# Altium integrated library SignalCommunications.IntLib: 804 symbols (part 7 of 10)
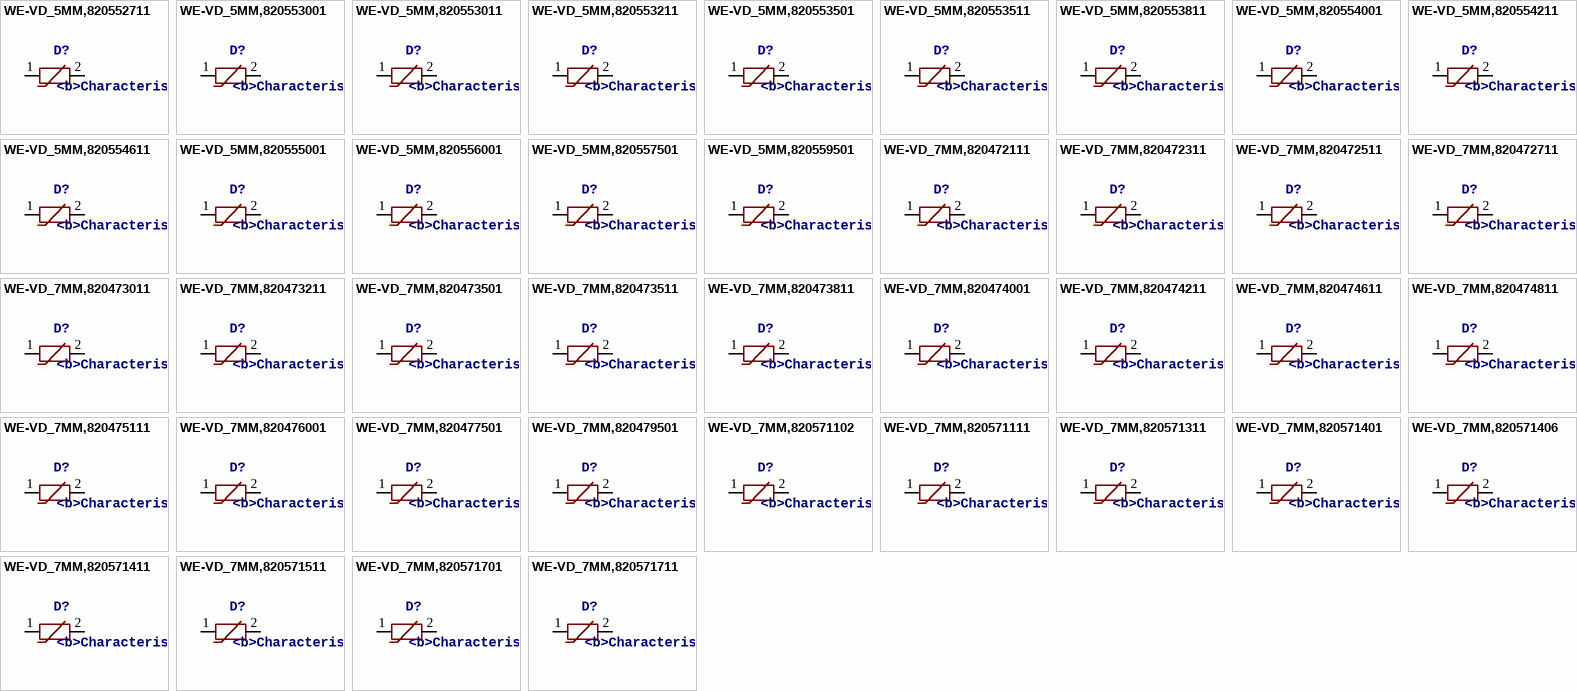
[diagram p48: symbols WE-VD_5MM,820552711 to WE-VD_7MM,820571711]

## WE-VD_7MM,820479501
designator D?, comment <b>Characteristics:</b> / <pre>•Low clamping voltage / •After a surge impulse the varistor works immediately / in normal mode so there is no slip current / •Excellent absorption at surge impulses</pre><br> / <b>Applications:</b> / <pre> / •12–48 VDC distribution / •110–400 V power supply / •Leakage of voltage peaks / •Surge protection in accordance with EN 61000-4-5 / </pre>
MANUFACTURER: Würth Elektronik eiSos GmbH; CREATED-BY: Christin Zierenner; COMPANY-URL: http://www.we-online.de; CREATED-DATE: May 2012; DATASHEET-URL: http://katalog.we-online.de/kataloge/eisos/index.php?language=en&pf=WE-VD
footprint WE-VD_7MM-DIA
pins: 1, 2

## WE-VD_7MM,820571102
designator D?, comment <b>Characteristics:</b> / <pre>•Low clamping voltage / •After a surge impulse the varistor works immediately / in normal mode so there is no slip current / •Excellent absorption at surge impulses</pre><br> / <b>Applications:</b> / <pre> / •12–48 VDC distribution / •110–400 V power supply / •Leakage of voltage peaks / •Surge protection in accordance with EN 61000-4-5 / </pre>
MANUFACTURER: Würth Elektronik eiSos GmbH; CREATED-BY: Christin Zierenner; COMPANY-URL: http://www.we-online.de; CREATED-DATE: May 2012; DATASHEET-URL: http://katalog.we-online.de/kataloge/eisos/index.php?language=en&pf=WE-VD
footprint WE-VD_7MM-DIA
pins: 1, 2

## WE-VD_7MM,820571111
designator D?, comment <b>Characteristics:</b> / <pre>•Low clamping voltage / •After a surge impulse the varistor works immediately / in normal mode so there is no slip current / •Excellent absorption at surge impulses</pre><br> / <b>Applications:</b> / <pre> / •12–48 VDC distribution / •110–400 V power supply / •Leakage of voltage peaks / •Surge protection in accordance with EN 61000-4-5 / </pre>
MANUFACTURER: Würth Elektronik eiSos GmbH; CREATED-BY: Christin Zierenner; COMPANY-URL: http://www.we-online.de; CREATED-DATE: May 2012; DATASHEET-URL: http://katalog.we-online.de/kataloge/eisos/media/pdf/820571111.pdf
footprint WE-VD_7MM-DIA
pins: 1, 2

## WE-VD_7MM,820571311
designator D?, comment <b>Characteristics:</b> / <pre>•Low clamping voltage / •After a surge impulse the varistor works immediately / in normal mode so there is no slip current / •Excellent absorption at surge impulses</pre><br> / <b>Applications:</b> / <pre> / •12–48 VDC distribution / •110–400 V power supply / •Leakage of voltage peaks / •Surge protection in accordance with EN 61000-4-5 / </pre>
MANUFACTURER: Würth Elektronik eiSos GmbH; CREATED-BY: Christin Zierenner; COMPANY-URL: http://www.we-online.de; CREATED-DATE: May 2012; DATASHEET-URL: http://katalog.we-online.de/kataloge/eisos/media/pdf/820571311.pdf
footprint WE-VD_7MM-DIA
pins: 1, 2

## WE-VD_7MM,820571401
designator D?, comment <b>Characteristics:</b> / <pre>•Low clamping voltage / •After a surge impulse the varistor works immediately / in normal mode so there is no slip current / •Excellent absorption at surge impulses</pre><br> / <b>Applications:</b> / <pre> / •12–48 VDC distribution / •110–400 V power supply / •Leakage of voltage peaks / •Surge protection in accordance with EN 61000-4-5 / </pre>
MANUFACTURER: Würth Elektronik eiSos GmbH; CREATED-BY: Christin Zierenner; COMPANY-URL: http://www.we-online.de; CREATED-DATE: May 2012; DATASHEET-URL: http://katalog.we-online.de/kataloge/eisos/index.php?language=en&pf=WE-VD
footprint WE-VD_7MM-DIA
pins: 1, 2

## WE-VD_7MM,820571406
designator D?, comment <b>Characteristics:</b> / <pre>•Low clamping voltage / •After a surge impulse the varistor works immediately / in normal mode so there is no slip current / •Excellent absorption at surge impulses</pre><br> / <b>Applications:</b> / <pre> / •12–48 VDC distribution / •110–400 V power supply / •Leakage of voltage peaks / •Surge protection in accordance with EN 61000-4-5 / </pre>
MANUFACTURER: Würth Elektronik eiSos GmbH; CREATED-BY: Christin Zierenner; COMPANY-URL: http://www.we-online.de; CREATED-DATE: May 2012; DATASHEET-URL: http://katalog.we-online.de/kataloge/eisos/media/pdf/820571406.pdf
footprint WE-VD_7MM-DIA
pins: 1, 2

## WE-VD_7MM,820571411
designator D?, comment <b>Characteristics:</b> / <pre>•Low clamping voltage / •After a surge impulse the varistor works immediately / in normal mode so there is no slip current / •Excellent absorption at surge impulses</pre><br> / <b>Applications:</b> / <pre> / •12–48 VDC distribution / •110–400 V power supply / •Leakage of voltage peaks / •Surge protection in accordance with EN 61000-4-5 / </pre>
MANUFACTURER: Würth Elektronik eiSos GmbH; CREATED-BY: Christin Zierenner; COMPANY-URL: http://www.we-online.de; CREATED-DATE: May 2012; DATASHEET-URL: http://katalog.we-online.de/kataloge/eisos/index.php?language=en&pf=WE-VD
footprint WE-VD_7MM-DIA
pins: 1, 2

## WE-VD_7MM,820571511
designator D?, comment <b>Characteristics:</b> / <pre>•Low clamping voltage / •After a surge impulse the varistor works immediately / in normal mode so there is no slip current / •Excellent absorption at surge impulses</pre><br> / <b>Applications:</b> / <pre> / •12–48 VDC distribution / •110–400 V power supply / •Leakage of voltage peaks / •Surge protection in accordance with EN 61000-4-5 / </pre>
MANUFACTURER: Würth Elektronik eiSos GmbH; CREATED-BY: Christin Zierenner; COMPANY-URL: http://www.we-online.de; CREATED-DATE: May 2012; DATASHEET-URL: http://katalog.we-online.de/kataloge/eisos/media/pdf/820471511.pdf
footprint WE-VD_7MM-DIA
pins: 1, 2

## WE-VD_7MM,820571701
designator D?, comment <b>Characteristics:</b> / <pre>•Low clamping voltage / •After a surge impulse the varistor works immediately / in normal mode so there is no slip current / •Excellent absorption at surge impulses</pre><br> / <b>Applications:</b> / <pre> / •12–48 VDC distribution / •110–400 V power supply / •Leakage of voltage peaks / •Surge protection in accordance with EN 61000-4-5 / </pre>
MANUFACTURER: Würth Elektronik eiSos GmbH; CREATED-BY: Christin Zierenner; COMPANY-URL: http://www.we-online.de; CREATED-DATE: May 2012; DATASHEET-URL: http://katalog.we-online.de/kataloge/eisos/index.php?language=en&pf=WE-VD
footprint WE-VD_7MM-DIA
pins: 1, 2

## WE-VD_7MM,820571711
designator D?, comment <b>Characteristics:</b> / <pre>•Low clamping voltage / •After a surge impulse the varistor works immediately / in normal mode so there is no slip current / •Excellent absorption at surge impulses</pre><br> / <b>Applications:</b> / <pre> / •12–48 VDC distribution / •110–400 V power supply / •Leakage of voltage peaks / •Surge protection in accordance with EN 61000-4-5 / </pre>
MANUFACTURER: Würth Elektronik eiSos GmbH; CREATED-BY: Christin Zierenner; COMPANY-URL: http://www.we-online.de; CREATED-DATE: May 2012; DATASHEET-URL: http://katalog.we-online.de/kataloge/eisos/index.php?language=en&pf=WE-VD
footprint WE-VD_7MM-DIA
pins: 1, 2

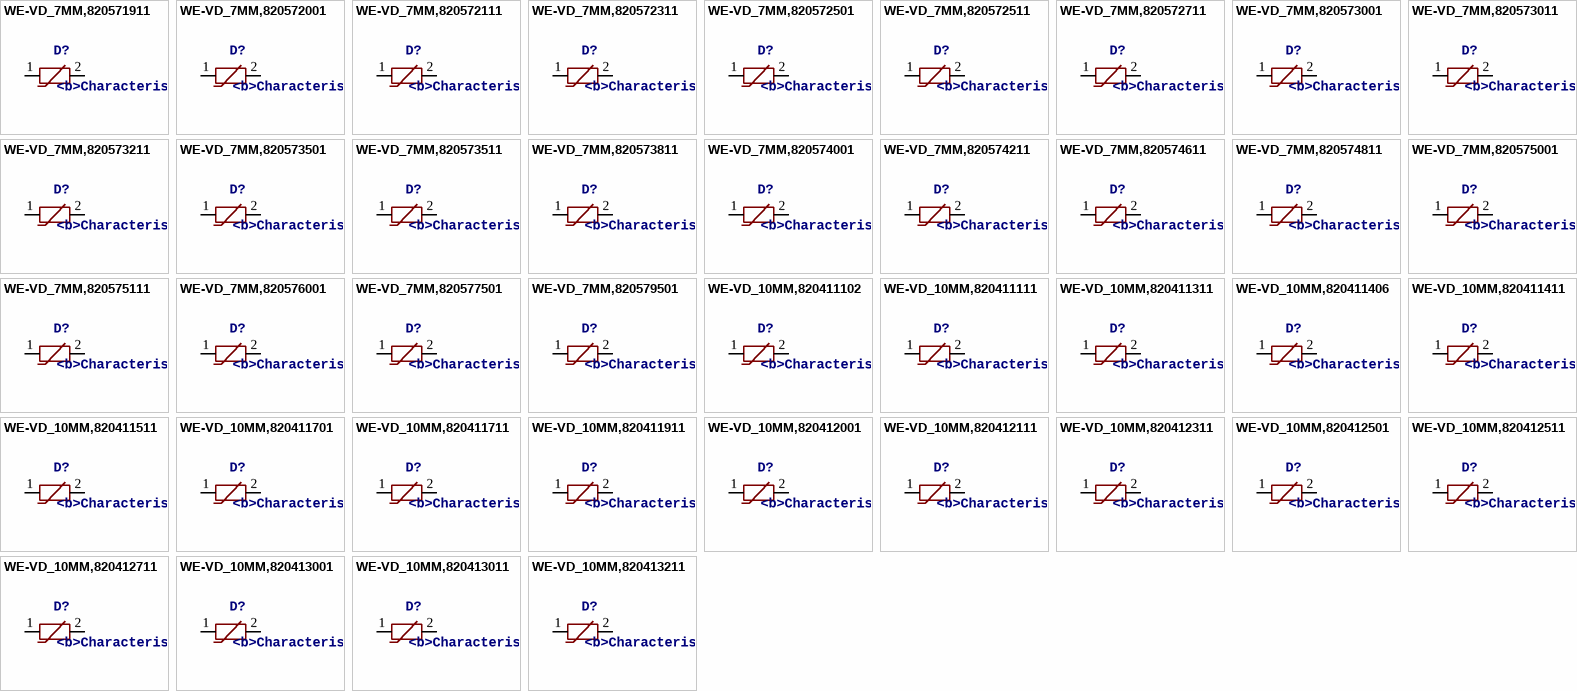
[diagram p36: symbols WE-VD_7MM,820571911 to WE-VD_10MM,820413211]

## WE-VD_7MM,820571911
designator D?, comment <b>Characteristics:</b> / <pre>•Low clamping voltage / •After a surge impulse the varistor works immediately / in normal mode so there is no slip current / •Excellent absorption at surge impulses</pre><br> / <b>Applications:</b> / <pre> / •12–48 VDC distribution / •110–400 V power supply / •Leakage of voltage peaks / •Surge protection in accordance with EN 61000-4-5 / </pre>
MANUFACTURER: Würth Elektronik eiSos GmbH; CREATED-BY: Christin Zierenner; COMPANY-URL: http://www.we-online.de; CREATED-DATE: May 2012; DATASHEET-URL: http://katalog.we-online.de/kataloge/eisos/index.php?language=en&pf=WE-VD
footprint WE-VD_7MM-DIA
pins: 1, 2

## WE-VD_7MM,820572001
designator D?, comment <b>Characteristics:</b> / <pre>•Low clamping voltage / •After a surge impulse the varistor works immediately / in normal mode so there is no slip current / •Excellent absorption at surge impulses</pre><br> / <b>Applications:</b> / <pre> / •12–48 VDC distribution / •110–400 V power supply / •Leakage of voltage peaks / •Surge protection in accordance with EN 61000-4-5 / </pre>
MANUFACTURER: Würth Elektronik eiSos GmbH; CREATED-BY: Christin Zierenner; COMPANY-URL: http://www.we-online.de; CREATED-DATE: May 2012; DATASHEET-URL: http://katalog.we-online.de/kataloge/eisos/index.php?language=en&pf=WE-VD
footprint WE-VD_7MM-DIA
pins: 1, 2

## WE-VD_7MM,820572111
designator D?, comment <b>Characteristics:</b> / <pre>•Low clamping voltage / •After a surge impulse the varistor works immediately / in normal mode so there is no slip current / •Excellent absorption at surge impulses</pre><br> / <b>Applications:</b> / <pre> / •12–48 VDC distribution / •110–400 V power supply / •Leakage of voltage peaks / •Surge protection in accordance with EN 61000-4-5 / </pre>
MANUFACTURER: Würth Elektronik eiSos GmbH; CREATED-BY: Christin Zierenner; COMPANY-URL: http://www.we-online.de; CREATED-DATE: May 2012; DATASHEET-URL: http://katalog.we-online.de/kataloge/eisos/index.php?language=en&pf=WE-VD
footprint WE-VD_7MM-1.0
pins: 1, 2

## WE-VD_7MM,820572311
designator D?, comment <b>Characteristics:</b> / <pre>•Low clamping voltage / •After a surge impulse the varistor works immediately / in normal mode so there is no slip current / •Excellent absorption at surge impulses</pre><br> / <b>Applications:</b> / <pre> / •12–48 VDC distribution / •110–400 V power supply / •Leakage of voltage peaks / •Surge protection in accordance with EN 61000-4-5 / </pre>
MANUFACTURER: Würth Elektronik eiSos GmbH; CREATED-BY: Christin Zierenner; COMPANY-URL: http://www.we-online.de; CREATED-DATE: May 2012; DATASHEET-URL: http://katalog.we-online.de/kataloge/eisos/index.php?language=en&pf=WE-VD
footprint WE-VD_7MM-1.1
pins: 1, 2

## WE-VD_7MM,820572501
designator D?, comment <b>Characteristics:</b> / <pre>•Low clamping voltage / •After a surge impulse the varistor works immediately / in normal mode so there is no slip current / •Excellent absorption at surge impulses</pre><br> / <b>Applications:</b> / <pre> / •12–48 VDC distribution / •110–400 V power supply / •Leakage of voltage peaks / •Surge protection in accordance with EN 61000-4-5 / </pre>
MANUFACTURER: Würth Elektronik eiSos GmbH; CREATED-BY: Christin Zierenner; COMPANY-URL: http://www.we-online.de; CREATED-DATE: May 2012; DATASHEET-URL: http://katalog.we-online.de/kataloge/eisos/media/pdf/820572501.pdf
footprint WE-VD_7MM-DIA
pins: 1, 2

## WE-VD_7MM,820572511
designator D?, comment <b>Characteristics:</b> / <pre>•Low clamping voltage / •After a surge impulse the varistor works immediately / in normal mode so there is no slip current / •Excellent absorption at surge impulses</pre><br> / <b>Applications:</b> / <pre> / •12–48 VDC distribution / •110–400 V power supply / •Leakage of voltage peaks / •Surge protection in accordance with EN 61000-4-5 / </pre>
MANUFACTURER: Würth Elektronik eiSos GmbH; CREATED-BY: Christin Zierenner; COMPANY-URL: http://www.we-online.de; CREATED-DATE: May 2012; DATASHEET-URL: http://katalog.we-online.de/kataloge/eisos/media/pdf/820572511.pdf
footprint WE-VD_7MM-1.3
pins: 1, 2

## WE-VD_7MM,820572711
designator D?, comment <b>Characteristics:</b> / <pre>•Low clamping voltage / •After a surge impulse the varistor works immediately / in normal mode so there is no slip current / •Excellent absorption at surge impulses</pre><br> / <b>Applications:</b> / <pre> / •12–48 VDC distribution / •110–400 V power supply / •Leakage of voltage peaks / •Surge protection in accordance with EN 61000-4-5 / </pre>
MANUFACTURER: Würth Elektronik eiSos GmbH; CREATED-BY: Christin Zierenner; COMPANY-URL: http://www.we-online.de; CREATED-DATE: May 2012; DATASHEET-URL: http://katalog.we-online.de/kataloge/eisos/media/pdf/820572711.pdf
footprint WE-VD_7MM-1.5
pins: 1, 2

## WE-VD_7MM,820573001
designator D?, comment <b>Characteristics:</b> / <pre>•Low clamping voltage / •After a surge impulse the varistor works immediately / in normal mode so there is no slip current / •Excellent absorption at surge impulses</pre><br> / <b>Applications:</b> / <pre> / •12–48 VDC distribution / •110–400 V power supply / •Leakage of voltage peaks / •Surge protection in accordance with EN 61000-4-5 / </pre>
MANUFACTURER: Würth Elektronik eiSos GmbH; CREATED-BY: Christin Zierenner; COMPANY-URL: http://www.we-online.de; CREATED-DATE: May 2012; DATASHEET-URL: http://katalog.we-online.de/kataloge/eisos/media/pdf/820573001.pdf
footprint WE-VD_7MM-DIA
pins: 1, 2

## WE-VD_7MM,820573011
designator D?, comment <b>Characteristics:</b> / <pre>•Low clamping voltage / •After a surge impulse the varistor works immediately / in normal mode so there is no slip current / •Excellent absorption at surge impulses</pre><br> / <b>Applications:</b> / <pre> / •12–48 VDC distribution / •110–400 V power supply / •Leakage of voltage peaks / •Surge protection in accordance with EN 61000-4-5 / </pre>
MANUFACTURER: Würth Elektronik eiSos GmbH; CREATED-BY: Christin Zierenner; COMPANY-URL: http://www.we-online.de; CREATED-DATE: May 2012; DATASHEET-URL: http://katalog.we-online.de/kataloge/eisos/media/pdf/820573011.pdf
footprint WE-VD_7MM-1.7
pins: 1, 2

## WE-VD_7MM,820573211
designator D?, comment <b>Characteristics:</b> / <pre>•Low clamping voltage / •After a surge impulse the varistor works immediately / in normal mode so there is no slip current / •Excellent absorption at surge impulses</pre><br> / <b>Applications:</b> / <pre> / •12–48 VDC distribution / •110–400 V power supply / •Leakage of voltage peaks / •Surge protection in accordance with EN 61000-4-5 / </pre>
MANUFACTURER: Würth Elektronik eiSos GmbH; CREATED-BY: Christin Zierenner; COMPANY-URL: http://www.we-online.de; CREATED-DATE: May 2012; DATASHEET-URL: http://katalog.we-online.de/kataloge/eisos/index.php?language=en&pf=WE-VD
footprint WE-VD_7MM-1.8
pins: 1, 2

## WE-VD_7MM,820573501
designator D?, comment <b>Characteristics:</b> / <pre>•Low clamping voltage / •After a surge impulse the varistor works immediately / in normal mode so there is no slip current / •Excellent absorption at surge impulses</pre><br> / <b>Applications:</b> / <pre> / •12–48 VDC distribution / •110–400 V power supply / •Leakage of voltage peaks / •Surge protection in accordance with EN 61000-4-5 / </pre>
MANUFACTURER: Würth Elektronik eiSos GmbH; CREATED-BY: Christin Zierenner; COMPANY-URL: http://www.we-online.de; CREATED-DATE: May 2012; DATASHEET-URL: http://katalog.we-online.de/kataloge/eisos/index.php?language=en&pf=WE-VD
footprint WE-VD_7MM-1.1
pins: 1, 2

## WE-VD_7MM,820573511
designator D?, comment <b>Characteristics:</b> / <pre>•Low clamping voltage / •After a surge impulse the varistor works immediately / in normal mode so there is no slip current / •Excellent absorption at surge impulses</pre><br> / <b>Applications:</b> / <pre> / •12–48 VDC distribution / •110–400 V power supply / •Leakage of voltage peaks / •Surge protection in accordance with EN 61000-4-5 / </pre>
MANUFACTURER: Würth Elektronik eiSos GmbH; CREATED-BY: Christin Zierenner; COMPANY-URL: http://www.we-online.de; CREATED-DATE: May 2012; DATASHEET-URL: http://katalog.we-online.de/kataloge/eisos/index.php?language=en&pf=WE-VD
footprint WE-VD_7MM-2.1
pins: 1, 2

## WE-VD_7MM,820573811
designator D?, comment <b>Characteristics:</b> / <pre>•Low clamping voltage / •After a surge impulse the varistor works immediately / in normal mode so there is no slip current / •Excellent absorption at surge impulses</pre><br> / <b>Applications:</b> / <pre> / •12–48 VDC distribution / •110–400 V power supply / •Leakage of voltage peaks / •Surge protection in accordance with EN 61000-4-5 / </pre>
MANUFACTURER: Würth Elektronik eiSos GmbH; CREATED-BY: Christin Zierenner; COMPANY-URL: http://www.we-online.de; CREATED-DATE: May 2012; DATASHEET-URL: http://katalog.we-online.de/kataloge/eisos/index.php?language=en&pf=WE-VD
footprint WE-VD_7MM-2.4
pins: 1, 2

## WE-VD_7MM,820574001
designator D?, comment <b>Characteristics:</b> / <pre>•Low clamping voltage / •After a surge impulse the varistor works immediately / in normal mode so there is no slip current / •Excellent absorption at surge impulses</pre><br> / <b>Applications:</b> / <pre> / •12–48 VDC distribution / •110–400 V power supply / •Leakage of voltage peaks / •Surge protection in accordance with EN 61000-4-5 / </pre>
MANUFACTURER: Würth Elektronik eiSos GmbH; CREATED-BY: Christin Zierenner; COMPANY-URL: http://www.we-online.de; CREATED-DATE: May 2012; DATASHEET-URL: http://katalog.we-online.de/kataloge/eisos/media/pdf/820574001.pdf
footprint WE-VD_7MM-1.5
pins: 1, 2

## WE-VD_7MM,820574211
designator D?, comment <b>Characteristics:</b> / <pre>•Low clamping voltage / •After a surge impulse the varistor works immediately / in normal mode so there is no slip current / •Excellent absorption at surge impulses</pre><br> / <b>Applications:</b> / <pre> / •12–48 VDC distribution / •110–400 V power supply / •Leakage of voltage peaks / •Surge protection in accordance with EN 61000-4-5 / </pre>
MANUFACTURER: Würth Elektronik eiSos GmbH; CREATED-BY: Christin Zierenner; COMPANY-URL: http://www.we-online.de; CREATED-DATE: May 2012; DATASHEET-URL: http://katalog.we-online.de/kataloge/eisos/media/pdf/820574211.pdf
footprint WE-VD_7MM-2.7
pins: 1, 2

## WE-VD_7MM,820574611
designator D?, comment <b>Characteristics:</b> / <pre>•Low clamping voltage / •After a surge impulse the varistor works immediately / in normal mode so there is no slip current / •Excellent absorption at surge impulses</pre><br> / <b>Applications:</b> / <pre> / •12–48 VDC distribution / •110–400 V power supply / •Leakage of voltage peaks / •Surge protection in accordance with EN 61000-4-5 / </pre>
MANUFACTURER: Würth Elektronik eiSos GmbH; CREATED-BY: Christin Zierenner; COMPANY-URL: http://www.we-online.de; CREATED-DATE: May 2012; DATASHEET-URL: http://katalog.we-online.de/kataloge/eisos/media/pdf/820574611.pdf
footprint WE-VD_7MM-3.0
pins: 1, 2

## WE-VD_7MM,820574811
designator D?, comment <b>Characteristics:</b> / <pre>•Low clamping voltage / •After a surge impulse the varistor works immediately / in normal mode so there is no slip current / •Excellent absorption at surge impulses</pre><br> / <b>Applications:</b> / <pre> / •12–48 VDC distribution / •110–400 V power supply / •Leakage of voltage peaks / •Surge protection in accordance with EN 61000-4-5 / </pre>
MANUFACTURER: Würth Elektronik eiSos GmbH; CREATED-BY: Christin Zierenner; COMPANY-URL: http://www.we-online.de; CREATED-DATE: May 2012; DATASHEET-URL: http://katalog.we-online.de/kataloge/eisos/index.php?language=en&pf=WE-VD
footprint WE-VD_7MM-3.1
pins: 1, 2

## WE-VD_7MM,820575001
designator D?, comment <b>Characteristics:</b> / <pre>•Low clamping voltage / •After a surge impulse the varistor works immediately / in normal mode so there is no slip current / •Excellent absorption at surge impulses</pre><br> / <b>Applications:</b> / <pre> / •12–48 VDC distribution / •110–400 V power supply / •Leakage of voltage peaks / •Surge protection in accordance with EN 61000-4-5 / </pre>
MANUFACTURER: Würth Elektronik eiSos GmbH; CREATED-BY: Christin Zierenner; COMPANY-URL: http://www.we-online.de; CREATED-DATE: May 2012; DATASHEET-URL: http://katalog.we-online.de/kataloge/eisos/media/pdf/820475001.pdf
footprint WE-VD_7MM-DIA
pins: 1, 2

## WE-VD_7MM,820575111
designator D?, comment <b>Characteristics:</b> / <pre>•Low clamping voltage / •After a surge impulse the varistor works immediately / in normal mode so there is no slip current / •Excellent absorption at surge impulses</pre><br> / <b>Applications:</b> / <pre> / •12–48 VDC distribution / •110–400 V power supply / •Leakage of voltage peaks / •Surge protection in accordance with EN 61000-4-5 / </pre>
MANUFACTURER: Würth Elektronik eiSos GmbH; CREATED-BY: Christin Zierenner; COMPANY-URL: http://www.we-online.de; CREATED-DATE: May 2012; DATASHEET-URL: http://katalog.we-online.de/kataloge/eisos/index.php?language=en&pf=WE-VD
footprint WE-VD_7MM-3.3
pins: 1, 2

## WE-VD_7MM,820576001
designator D?, comment <b>Characteristics:</b> / <pre>•Low clamping voltage / •After a surge impulse the varistor works immediately / in normal mode so there is no slip current / •Excellent absorption at surge impulses</pre><br> / <b>Applications:</b> / <pre> / •12–48 VDC distribution / •110–400 V power supply / •Leakage of voltage peaks / •Surge protection in accordance with EN 61000-4-5 / </pre>
MANUFACTURER: Würth Elektronik eiSos GmbH; CREATED-BY: Christin Zierenner; COMPANY-URL: http://www.we-online.de; CREATED-DATE: May 2012; DATASHEET-URL: http://katalog.we-online.de/kataloge/eisos/media/pdf/820576001.pdf
footprint WE-VD_7MM-DIA
pins: 1, 2

## WE-VD_7MM,820577501
designator D?, comment <b>Characteristics:</b> / <pre>•Low clamping voltage / •After a surge impulse the varistor works immediately / in normal mode so there is no slip current / •Excellent absorption at surge impulses</pre><br> / <b>Applications:</b> / <pre> / •12–48 VDC distribution / •110–400 V power supply / •Leakage of voltage peaks / •Surge protection in accordance with EN 61000-4-5 / </pre>
MANUFACTURER: Würth Elektronik eiSos GmbH; CREATED-BY: Christin Zierenner; COMPANY-URL: http://www.we-online.de; CREATED-DATE: May 2012; DATASHEET-URL: http://katalog.we-online.de/kataloge/eisos/index.php?language=en&pf=WE-VD
footprint WE-VD_7MM-DIA
pins: 1, 2

## WE-VD_7MM,820579501
designator D?, comment <b>Characteristics:</b> / <pre>•Low clamping voltage / •After a surge impulse the varistor works immediately / in normal mode so there is no slip current / •Excellent absorption at surge impulses</pre><br> / <b>Applications:</b> / <pre> / •12–48 VDC distribution / •110–400 V power supply / •Leakage of voltage peaks / •Surge protection in accordance with EN 61000-4-5 / </pre>
MANUFACTURER: Würth Elektronik eiSos GmbH; CREATED-BY: Christin Zierenner; COMPANY-URL: http://www.we-online.de; CREATED-DATE: May 2012; DATASHEET-URL: http://katalog.we-online.de/kataloge/eisos/index.php?language=en&pf=WE-VD
footprint WE-VD_7MM-DIA
pins: 1, 2

## WE-VD_10MM,820411102
designator D?, comment <b>Characteristics:</b> / <pre>•Low clamping voltage / •After a surge impulse the varistor works immediately / in normal mode so there is no slip current / •Excellent absorption at surge impulses</pre><br> / <b>Applications:</b> / <pre> / •12–48 VDC distribution / •110–400 V power supply / •Leakage of voltage peaks / •Surge protection in accordance with EN 61000-4-5 / </pre>
MANUFACTURER: Würth Elektronik eiSos GmbH; CREATED-BY: Christin Zierenner; COMPANY-URL: http://www.we-online.de; CREATED-DATE: May 2012; DATASHEET-URL: http://katalog.we-online.de/kataloge/eisos/index.php?language=en&pf=WE-VD
footprint WE-VD_10MM-DIA
pins: 1, 2

## WE-VD_10MM,820411111
designator D?, comment <b>Characteristics:</b> / <pre>•Low clamping voltage / •After a surge impulse the varistor works immediately / in normal mode so there is no slip current / •Excellent absorption at surge impulses</pre><br> / <b>Applications:</b> / <pre> / •12–48 VDC distribution / •110–400 V power supply / •Leakage of voltage peaks / •Surge protection in accordance with EN 61000-4-5 / </pre>
MANUFACTURER: Würth Elektronik eiSos GmbH; CREATED-BY: Christin Zierenner; COMPANY-URL: http://www.we-online.de; CREATED-DATE: May 2012; DATASHEET-URL: http://katalog.we-online.de/kataloge/eisos/index.php?language=en&pf=WE-VD
footprint WE-VD_10MM-DIA
pins: 1, 2

## WE-VD_10MM,820411311
designator D?, comment <b>Characteristics:</b> / <pre>•Low clamping voltage / •After a surge impulse the varistor works immediately / in normal mode so there is no slip current / •Excellent absorption at surge impulses</pre><br> / <b>Applications:</b> / <pre> / •12–48 VDC distribution / •110–400 V power supply / •Leakage of voltage peaks / •Surge protection in accordance with EN 61000-4-5 / </pre>
MANUFACTURER: Würth Elektronik eiSos GmbH; CREATED-BY: Christin Zierenner; COMPANY-URL: http://www.we-online.de; CREATED-DATE: May 2012; DATASHEET-URL: http://katalog.we-online.de/kataloge/eisos/media/pdf/820411311.pdf
footprint WE-VD_10MM-DIA
pins: 1, 2

## WE-VD_10MM,820411406
designator D?, comment <b>Characteristics:</b> / <pre>•Low clamping voltage / •After a surge impulse the varistor works immediately / in normal mode so there is no slip current / •Excellent absorption at surge impulses</pre><br> / <b>Applications:</b> / <pre> / •12–48 VDC distribution / •110–400 V power supply / •Leakage of voltage peaks / •Surge protection in accordance with EN 61000-4-5 / </pre>
MANUFACTURER: Würth Elektronik eiSos GmbH; CREATED-BY: Christin Zierenner; COMPANY-URL: http://www.we-online.de; CREATED-DATE: May 2012; DATASHEET-URL: http://katalog.we-online.de/kataloge/eisos/index.php?language=en&pf=WE-VD
footprint WE-VD_10MM-DIA
pins: 1, 2

## WE-VD_10MM,820411411
designator D?, comment <b>Characteristics:</b> / <pre>•Low clamping voltage / •After a surge impulse the varistor works immediately / in normal mode so there is no slip current / •Excellent absorption at surge impulses</pre><br> / <b>Applications:</b> / <pre> / •12–48 VDC distribution / •110–400 V power supply / •Leakage of voltage peaks / •Surge protection in accordance with EN 61000-4-5 / </pre>
MANUFACTURER: Würth Elektronik eiSos GmbH; CREATED-BY: Christin Zierenner; COMPANY-URL: http://www.we-online.de; CREATED-DATE: May 2012; DATASHEET-URL: http://katalog.we-online.de/kataloge/eisos/index.php?language=en&pf=WE-VD
footprint WE-VD_10MM-DIA
pins: 1, 2

## WE-VD_10MM,820411511
designator D?, comment <b>Characteristics:</b> / <pre>•Low clamping voltage / •After a surge impulse the varistor works immediately / in normal mode so there is no slip current / •Excellent absorption at surge impulses</pre><br> / <b>Applications:</b> / <pre> / •12–48 VDC distribution / •110–400 V power supply / •Leakage of voltage peaks / •Surge protection in accordance with EN 61000-4-5 / </pre>
MANUFACTURER: Würth Elektronik eiSos GmbH; CREATED-BY: Christin Zierenner; COMPANY-URL: http://www.we-online.de; CREATED-DATE: May 2012; DATASHEET-URL: http://katalog.we-online.de/kataloge/eisos/index.php?language=en&pf=WE-VD
footprint WE-VD_10MM-DIA
pins: 1, 2

## WE-VD_10MM,820411701
designator D?, comment <b>Characteristics:</b> / <pre>•Low clamping voltage / •After a surge impulse the varistor works immediately / in normal mode so there is no slip current / •Excellent absorption at surge impulses</pre><br> / <b>Applications:</b> / <pre> / •12–48 VDC distribution / •110–400 V power supply / •Leakage of voltage peaks / •Surge protection in accordance with EN 61000-4-5 / </pre>
MANUFACTURER: Würth Elektronik eiSos GmbH; CREATED-BY: Christin Zierenner; COMPANY-URL: http://www.we-online.de; CREATED-DATE: May 2012; DATASHEET-URL: http://katalog.we-online.de/kataloge/eisos/index.php?language=en&pf=WE-VD
footprint WE-VD_10MM-DIA
pins: 1, 2

## WE-VD_10MM,820411711
designator D?, comment <b>Characteristics:</b> / <pre>•Low clamping voltage / •After a surge impulse the varistor works immediately / in normal mode so there is no slip current / •Excellent absorption at surge impulses</pre><br> / <b>Applications:</b> / <pre> / •12–48 VDC distribution / •110–400 V power supply / •Leakage of voltage peaks / •Surge protection in accordance with EN 61000-4-5 / </pre>
MANUFACTURER: Würth Elektronik eiSos GmbH; CREATED-BY: Christin Zierenner; COMPANY-URL: http://www.we-online.de; CREATED-DATE: May 2012; DATASHEET-URL: http://katalog.we-online.de/kataloge/eisos/index.php?language=en&pf=WE-VD
footprint WE-VD_10MM-DIA
pins: 1, 2

## WE-VD_10MM,820411911
designator D?, comment <b>Characteristics:</b> / <pre>•Low clamping voltage / •After a surge impulse the varistor works immediately / in normal mode so there is no slip current / •Excellent absorption at surge impulses</pre><br> / <b>Applications:</b> / <pre> / •12–48 VDC distribution / •110–400 V power supply / •Leakage of voltage peaks / •Surge protection in accordance with EN 61000-4-5 / </pre>
MANUFACTURER: Würth Elektronik eiSos GmbH; CREATED-BY: Christin Zierenner; COMPANY-URL: http://www.we-online.de; CREATED-DATE: May 2012; DATASHEET-URL: http://katalog.we-online.de/kataloge/eisos/index.php?language=en&pf=WE-VD
footprint WE-VD_10MM-DIA
pins: 1, 2

## WE-VD_10MM,820412001
designator D?, comment <b>Characteristics:</b> / <pre>•Low clamping voltage / •After a surge impulse the varistor works immediately / in normal mode so there is no slip current / •Excellent absorption at surge impulses</pre><br> / <b>Applications:</b> / <pre> / •12–48 VDC distribution / •110–400 V power supply / •Leakage of voltage peaks / •Surge protection in accordance with EN 61000-4-5 / </pre>
MANUFACTURER: Würth Elektronik eiSos GmbH; CREATED-BY: Christin Zierenner; COMPANY-URL: http://www.we-online.de; CREATED-DATE: May 2012; DATASHEET-URL: http://katalog.we-online.de/kataloge/eisos/media/pdf/820412001.pdf
footprint WE-VD_10MM-DIA
pins: 1, 2

## WE-VD_10MM,820412111
designator D?, comment <b>Characteristics:</b> / <pre>•Low clamping voltage / •After a surge impulse the varistor works immediately / in normal mode so there is no slip current / •Excellent absorption at surge impulses</pre><br> / <b>Applications:</b> / <pre> / •12–48 VDC distribution / •110–400 V power supply / •Leakage of voltage peaks / •Surge protection in accordance with EN 61000-4-5 / </pre>
MANUFACTURER: Würth Elektronik eiSos GmbH; CREATED-BY: Christin Zierenner; COMPANY-URL: http://www.we-online.de; CREATED-DATE: May 2012; DATASHEET-URL: http://katalog.we-online.de/kataloge/eisos/index.php?language=en&pf=WE-VD
footprint WE-VD_10MM-DIA
pins: 1, 2

## WE-VD_10MM,820412311
designator D?, comment <b>Characteristics:</b> / <pre>•Low clamping voltage / •After a surge impulse the varistor works immediately / in normal mode so there is no slip current / •Excellent absorption at surge impulses</pre><br> / <b>Applications:</b> / <pre> / •12–48 VDC distribution / •110–400 V power supply / •Leakage of voltage peaks / •Surge protection in accordance with EN 61000-4-5 / </pre>
MANUFACTURER: Würth Elektronik eiSos GmbH; CREATED-BY: Christin Zierenner; COMPANY-URL: http://www.we-online.de; CREATED-DATE: May 2012; DATASHEET-URL: http://katalog.we-online.de/kataloge/eisos/index.php?language=en&pf=WE-VD
footprint WE-VD_10MM-0.9
pins: 1, 2

## WE-VD_10MM,820412501
designator D?, comment <b>Characteristics:</b> / <pre>•Low clamping voltage / •After a surge impulse the varistor works immediately / in normal mode so there is no slip current / •Excellent absorption at surge impulses</pre><br> / <b>Applications:</b> / <pre> / •12–48 VDC distribution / •110–400 V power supply / •Leakage of voltage peaks / •Surge protection in accordance with EN 61000-4-5 / </pre>
MANUFACTURER: Würth Elektronik eiSos GmbH; CREATED-BY: Christin Zierenner; COMPANY-URL: http://www.we-online.de; CREATED-DATE: May 2012; DATASHEET-URL: http://katalog.we-online.de/kataloge/eisos/index.php?language=en&pf=WE-VD
footprint WE-VD_10MM-DIA
pins: 1, 2

## WE-VD_10MM,820412511
designator D?, comment <b>Characteristics:</b> / <pre>•Low clamping voltage / •After a surge impulse the varistor works immediately / in normal mode so there is no slip current / •Excellent absorption at surge impulses</pre><br> / <b>Applications:</b> / <pre> / •12–48 VDC distribution / •110–400 V power supply / •Leakage of voltage peaks / •Surge protection in accordance with EN 61000-4-5 / </pre>
MANUFACTURER: Würth Elektronik eiSos GmbH; CREATED-BY: Christin Zierenner; COMPANY-URL: http://www.we-online.de; CREATED-DATE: May 2012; DATASHEET-URL: http://katalog.we-online.de/kataloge/eisos/media/pdf/820412511.pdf
footprint WE-VD_10MM-1.1
pins: 1, 2

## WE-VD_10MM,820412711
designator D?, comment <b>Characteristics:</b> / <pre>•Low clamping voltage / •After a surge impulse the varistor works immediately / in normal mode so there is no slip current / •Excellent absorption at surge impulses</pre><br> / <b>Applications:</b> / <pre> / •12–48 VDC distribution / •110–400 V power supply / •Leakage of voltage peaks / •Surge protection in accordance with EN 61000-4-5 / </pre>
MANUFACTURER: Würth Elektronik eiSos GmbH; CREATED-BY: Christin Zierenner; COMPANY-URL: http://www.we-online.de; CREATED-DATE: May 2012; DATASHEET-URL: http://katalog.we-online.de/kataloge/eisos/media/pdf/820412711.pdf
footprint WE-VD_10MM-1.3
pins: 1, 2

## WE-VD_10MM,820413001
designator D?, comment <b>Characteristics:</b> / <pre>•Low clamping voltage / •After a surge impulse the varistor works immediately / in normal mode so there is no slip current / •Excellent absorption at surge impulses</pre><br> / <b>Applications:</b> / <pre> / •12–48 VDC distribution / •110–400 V power supply / •Leakage of voltage peaks / •Surge protection in accordance with EN 61000-4-5 / </pre>
MANUFACTURER: Würth Elektronik eiSos GmbH; CREATED-BY: Christin Zierenner; COMPANY-URL: http://www.we-online.de; CREATED-DATE: May 2012; DATASHEET-URL: http://katalog.we-online.de/kataloge/eisos/index.php?language=en&pf=WE-VD
footprint WE-VD_10MM-DIA
pins: 1, 2

## WE-VD_10MM,820413011
designator D?, comment <b>Characteristics:</b> / <pre>•Low clamping voltage / •After a surge impulse the varistor works immediately / in normal mode so there is no slip current / •Excellent absorption at surge impulses</pre><br> / <b>Applications:</b> / <pre> / •12–48 VDC distribution / •110–400 V power supply / •Leakage of voltage peaks / •Surge protection in accordance with EN 61000-4-5 / </pre>
MANUFACTURER: Würth Elektronik eiSos GmbH; CREATED-BY: Christin Zierenner; COMPANY-URL: http://www.we-online.de; CREATED-DATE: May 2012; DATASHEET-URL: http://katalog.we-online.de/kataloge/eisos/index.php?language=en&pf=WE-VD
footprint WE-VD_10MM-1.5
pins: 1, 2

## WE-VD_10MM,820413211
designator D?, comment <b>Characteristics:</b> / <pre>•Low clamping voltage / •After a surge impulse the varistor works immediately / in normal mode so there is no slip current / •Excellent absorption at surge impulses</pre><br> / <b>Applications:</b> / <pre> / •12–48 VDC distribution / •110–400 V power supply / •Leakage of voltage peaks / •Surge protection in accordance with EN 61000-4-5 / </pre>
MANUFACTURER: Würth Elektronik eiSos GmbH; CREATED-BY: Christin Zierenner; COMPANY-URL: http://www.we-online.de; CREATED-DATE: May 2012; DATASHEET-URL: http://katalog.we-online.de/kataloge/eisos/index.php?language=en&pf=WE-VD
footprint WE-VD_10MM-1.6
pins: 1, 2

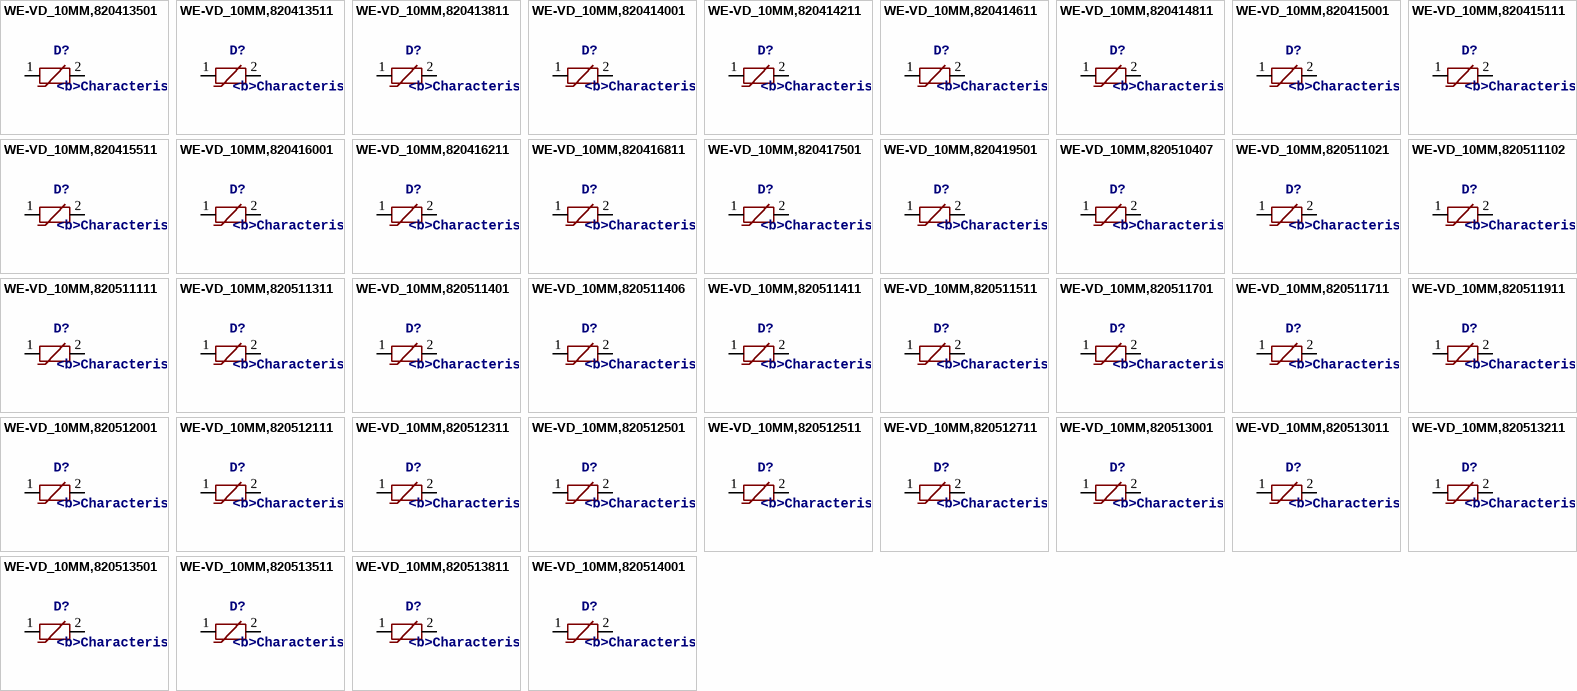
[diagram p37: symbols WE-VD_10MM,820413501 to WE-VD_10MM,820514001]

## WE-VD_10MM,820413501
designator D?, comment <b>Characteristics:</b> / <pre>•Low clamping voltage / •After a surge impulse the varistor works immediately / in normal mode so there is no slip current / •Excellent absorption at surge impulses</pre><br> / <b>Applications:</b> / <pre> / •12–48 VDC distribution / •110–400 V power supply / •Leakage of voltage peaks / •Surge protection in accordance with EN 61000-4-5 / </pre>
MANUFACTURER: Würth Elektronik eiSos GmbH; CREATED-BY: Christin Zierenner; COMPANY-URL: http://www.we-online.de; CREATED-DATE: May 2012; DATASHEET-URL: http://katalog.we-online.de/kataloge/eisos/index.php?language=en&pf=WE-VD
footprint WE-VD_10MM-0.9
pins: 1, 2

## WE-VD_10MM,820413511
designator D?, comment <b>Characteristics:</b> / <pre>•Low clamping voltage / •After a surge impulse the varistor works immediately / in normal mode so there is no slip current / •Excellent absorption at surge impulses</pre><br> / <b>Applications:</b> / <pre> / •12–48 VDC distribution / •110–400 V power supply / •Leakage of voltage peaks / •Surge protection in accordance with EN 61000-4-5 / </pre>
MANUFACTURER: Würth Elektronik eiSos GmbH; CREATED-BY: Christin Zierenner; COMPANY-URL: http://www.we-online.de; CREATED-DATE: May 2012; DATASHEET-URL: http://katalog.we-online.de/kataloge/eisos/index.php?language=en&pf=WE-VD
footprint WE-VD_10MM-1.9
pins: 1, 2

## WE-VD_10MM,820413811
designator D?, comment <b>Characteristics:</b> / <pre>•Low clamping voltage / •After a surge impulse the varistor works immediately / in normal mode so there is no slip current / •Excellent absorption at surge impulses</pre><br> / <b>Applications:</b> / <pre> / •12–48 VDC distribution / •110–400 V power supply / •Leakage of voltage peaks / •Surge protection in accordance with EN 61000-4-5 / </pre>
MANUFACTURER: Würth Elektronik eiSos GmbH; CREATED-BY: Christin Zierenner; COMPANY-URL: http://www.we-online.de; CREATED-DATE: May 2012; DATASHEET-URL: http://katalog.we-online.de/kataloge/eisos/index.php?language=en&pf=WE-VD
footprint WE-VD_10MM-2.2
pins: 1, 2

## WE-VD_10MM,820414001
designator D?, comment <b>Characteristics:</b> / <pre>•Low clamping voltage / •After a surge impulse the varistor works immediately / in normal mode so there is no slip current / •Excellent absorption at surge impulses</pre><br> / <b>Applications:</b> / <pre> / •12–48 VDC distribution / •110–400 V power supply / •Leakage of voltage peaks / •Surge protection in accordance with EN 61000-4-5 / </pre>
MANUFACTURER: Würth Elektronik eiSos GmbH; CREATED-BY: Christin Zierenner; COMPANY-URL: http://www.we-online.de; CREATED-DATE: May 2012; DATASHEET-URL: http://katalog.we-online.de/kataloge/eisos/index.php?language=en&pf=WE-VD
footprint WE-VD_10MM-1.3
pins: 1, 2

## WE-VD_10MM,820414211
designator D?, comment <b>Characteristics:</b> / <pre>•Low clamping voltage / •After a surge impulse the varistor works immediately / in normal mode so there is no slip current / •Excellent absorption at surge impulses</pre><br> / <b>Applications:</b> / <pre> / •12–48 VDC distribution / •110–400 V power supply / •Leakage of voltage peaks / •Surge protection in accordance with EN 61000-4-5 / </pre>
MANUFACTURER: Würth Elektronik eiSos GmbH; CREATED-BY: Christin Zierenner; COMPANY-URL: http://www.we-online.de; CREATED-DATE: May 2012; DATASHEET-URL: http://katalog.we-online.de/kataloge/eisos/index.php?language=en&pf=WE-VD
footprint WE-VD_10MM-2.5
pins: 1, 2

## WE-VD_10MM,820414611
designator D?, comment <b>Characteristics:</b> / <pre>•Low clamping voltage / •After a surge impulse the varistor works immediately / in normal mode so there is no slip current / •Excellent absorption at surge impulses</pre><br> / <b>Applications:</b> / <pre> / •12–48 VDC distribution / •110–400 V power supply / •Leakage of voltage peaks / •Surge protection in accordance with EN 61000-4-5 / </pre>
MANUFACTURER: Würth Elektronik eiSos GmbH; CREATED-BY: Christin Zierenner; COMPANY-URL: http://www.we-online.de; CREATED-DATE: May 2012; DATASHEET-URL: http://katalog.we-online.de/kataloge/eisos/index.php?language=en&pf=WE-VD
footprint WE-VD_10MM-2.8
pins: 1, 2

## WE-VD_10MM,820414811
designator D?, comment <b>Characteristics:</b> / <pre>•Low clamping voltage / •After a surge impulse the varistor works immediately / in normal mode so there is no slip current / •Excellent absorption at surge impulses</pre><br> / <b>Applications:</b> / <pre> / •12–48 VDC distribution / •110–400 V power supply / •Leakage of voltage peaks / •Surge protection in accordance with EN 61000-4-5 / </pre>
MANUFACTURER: Würth Elektronik eiSos GmbH; CREATED-BY: Christin Zierenner; COMPANY-URL: http://www.we-online.de; CREATED-DATE: May 2012; DATASHEET-URL: http://katalog.we-online.de/kataloge/eisos/index.php?language=en&pf=WE-VD
footprint WE-VD_10MM-2.9
pins: 1, 2

## WE-VD_10MM,820415001
designator D?, comment <b>Characteristics:</b> / <pre>•Low clamping voltage / •After a surge impulse the varistor works immediately / in normal mode so there is no slip current / •Excellent absorption at surge impulses</pre><br> / <b>Applications:</b> / <pre> / •12–48 VDC distribution / •110–400 V power supply / •Leakage of voltage peaks / •Surge protection in accordance with EN 61000-4-5 / </pre>
MANUFACTURER: Würth Elektronik eiSos GmbH; CREATED-BY: Christin Zierenner; COMPANY-URL: http://www.we-online.de; CREATED-DATE: May 2012; DATASHEET-URL: http://katalog.we-online.de/kataloge/eisos/index.php?language=en&pf=WE-VD
footprint WE-VD_10MM-DIA
pins: 1, 2

## WE-VD_10MM,820415111
designator D?, comment <b>Characteristics:</b> / <pre>•Low clamping voltage / •After a surge impulse the varistor works immediately / in normal mode so there is no slip current / •Excellent absorption at surge impulses</pre><br> / <b>Applications:</b> / <pre> / •12–48 VDC distribution / •110–400 V power supply / •Leakage of voltage peaks / •Surge protection in accordance with EN 61000-4-5 / </pre>
MANUFACTURER: Würth Elektronik eiSos GmbH; CREATED-BY: Christin Zierenner; COMPANY-URL: http://www.we-online.de; CREATED-DATE: May 2012; DATASHEET-URL: http://katalog.we-online.de/kataloge/eisos/index.php?language=en&pf=WE-VD
footprint WE-VD_10MM-3.1
pins: 1, 2

## WE-VD_10MM,820415511
designator D?, comment <b>Characteristics:</b> / <pre>•Low clamping voltage / •After a surge impulse the varistor works immediately / in normal mode so there is no slip current / •Excellent absorption at surge impulses</pre><br> / <b>Applications:</b> / <pre> / •12–48 VDC distribution / •110–400 V power supply / •Leakage of voltage peaks / •Surge protection in accordance with EN 61000-4-5 / </pre>
MANUFACTURER: Würth Elektronik eiSos GmbH; CREATED-BY: Christin Zierenner; COMPANY-URL: http://www.we-online.de; CREATED-DATE: May 2012; DATASHEET-URL: http://katalog.we-online.de/kataloge/eisos/media/pdf/820415511B.pdf
footprint WE-VD_10MM-3.6
pins: 1, 2

## WE-VD_10MM,820416001
designator D?, comment <b>Characteristics:</b> / <pre>•Low clamping voltage / •After a surge impulse the varistor works immediately / in normal mode so there is no slip current / •Excellent absorption at surge impulses</pre><br> / <b>Applications:</b> / <pre> / •12–48 VDC distribution / •110–400 V power supply / •Leakage of voltage peaks / •Surge protection in accordance with EN 61000-4-5 / </pre>
MANUFACTURER: Würth Elektronik eiSos GmbH; CREATED-BY: Christin Zierenner; COMPANY-URL: http://www.we-online.de; CREATED-DATE: May 2012; DATASHEET-URL: http://katalog.we-online.de/kataloge/eisos/index.php?language=en&pf=WE-VD
footprint WE-VD_10MM-DIA
pins: 1, 2

## WE-VD_10MM,820416211
designator D?, comment <b>Characteristics:</b> / <pre>•Low clamping voltage / •After a surge impulse the varistor works immediately / in normal mode so there is no slip current / •Excellent absorption at surge impulses</pre><br> / <b>Applications:</b> / <pre> / •12–48 VDC distribution / •110–400 V power supply / •Leakage of voltage peaks / •Surge protection in accordance with EN 61000-4-5 / </pre>
MANUFACTURER: Würth Elektronik eiSos GmbH; CREATED-BY: Christin Zierenner; COMPANY-URL: http://www.we-online.de; CREATED-DATE: May 2012; DATASHEET-URL: http://katalog.we-online.de/kataloge/eisos/index.php?language=en&pf=WE-VD
footprint WE-VD_10MM-4.0
pins: 1, 2

## WE-VD_10MM,820416811
designator D?, comment <b>Characteristics:</b> / <pre>•Low clamping voltage / •After a surge impulse the varistor works immediately / in normal mode so there is no slip current / •Excellent absorption at surge impulses</pre><br> / <b>Applications:</b> / <pre> / •12–48 VDC distribution / •110–400 V power supply / •Leakage of voltage peaks / •Surge protection in accordance with EN 61000-4-5 / </pre>
MANUFACTURER: Würth Elektronik eiSos GmbH; CREATED-BY: Christin Zierenner; COMPANY-URL: http://www.we-online.de; CREATED-DATE: May 2012; DATASHEET-URL: http://katalog.we-online.de/kataloge/eisos/index.php?language=en&pf=WE-VD
footprint WE-VD_10MM-4.5
pins: 1, 2

## WE-VD_10MM,820417501
designator D?, comment <b>Characteristics:</b> / <pre>•Low clamping voltage / •After a surge impulse the varistor works immediately / in normal mode so there is no slip current / •Excellent absorption at surge impulses</pre><br> / <b>Applications:</b> / <pre> / •12–48 VDC distribution / •110–400 V power supply / •Leakage of voltage peaks / •Surge protection in accordance with EN 61000-4-5 / </pre>
MANUFACTURER: Würth Elektronik eiSos GmbH; CREATED-BY: Christin Zierenner; COMPANY-URL: http://www.we-online.de; CREATED-DATE: May 2012; DATASHEET-URL: http://katalog.we-online.de/kataloge/eisos/index.php?language=en&pf=WE-VD
footprint WE-VD_10MM-DIA
pins: 1, 2

## WE-VD_10MM,820419501
designator D?, comment <b>Characteristics:</b> / <pre>•Low clamping voltage / •After a surge impulse the varistor works immediately / in normal mode so there is no slip current / •Excellent absorption at surge impulses</pre><br> / <b>Applications:</b> / <pre> / •12–48 VDC distribution / •110–400 V power supply / •Leakage of voltage peaks / •Surge protection in accordance with EN 61000-4-5 / </pre>
MANUFACTURER: Würth Elektronik eiSos GmbH; CREATED-BY: Christin Zierenner; COMPANY-URL: http://www.we-online.de; CREATED-DATE: May 2012; DATASHEET-URL: http://katalog.we-online.de/kataloge/eisos/index.php?language=en&pf=WE-VD
footprint WE-VD_10MM-DIA
pins: 1, 2

## WE-VD_10MM,820510407
designator D?, comment <b>Characteristics:</b> / <pre>•Low clamping voltage / •After a surge impulse the varistor works immediately / in normal mode so there is no slip current / •Excellent absorption at surge impulses</pre><br> / <b>Applications:</b> / <pre> / •12–48 VDC distribution / •110–400 V power supply / •Leakage of voltage peaks / •Surge protection in accordance with EN 61000-4-5 / </pre>
MANUFACTURER: Würth Elektronik eiSos GmbH; CREATED-BY: Christin Zierenner; COMPANY-URL: http://www.we-online.de; CREATED-DATE: May 2012; DATASHEET-URL: http://katalog.we-online.de/kataloge/eisos/index.php?language=en&pf=WE-VD
footprint WE-VD_10MM-DIA
pins: 1, 2

## WE-VD_10MM,820511021
designator D?, comment <b>Characteristics:</b> / <pre>•Low clamping voltage / •After a surge impulse the varistor works immediately / in normal mode so there is no slip current / •Excellent absorption at surge impulses</pre><br> / <b>Applications:</b> / <pre> / •12–48 VDC distribution / •110–400 V power supply / •Leakage of voltage peaks / •Surge protection in accordance with EN 61000-4-5 / </pre>
MANUFACTURER: Würth Elektronik eiSos GmbH; CREATED-BY: Christin Zierenner; COMPANY-URL: http://www.we-online.de; CREATED-DATE: May 2012; DATASHEET-URL: http://katalog.we-online.de/kataloge/eisos/index.php?language=en&pf=WE-VD
footprint WE-VD_10MM-9.8
pins: 1, 2

## WE-VD_10MM,820511102
designator D?, comment <b>Characteristics:</b> / <pre>•Low clamping voltage / •After a surge impulse the varistor works immediately / in normal mode so there is no slip current / •Excellent absorption at surge impulses</pre><br> / <b>Applications:</b> / <pre> / •12–48 VDC distribution / •110–400 V power supply / •Leakage of voltage peaks / •Surge protection in accordance with EN 61000-4-5 / </pre>
MANUFACTURER: Würth Elektronik eiSos GmbH; CREATED-BY: Christin Zierenner; COMPANY-URL: http://www.we-online.de; CREATED-DATE: May 2012; DATASHEET-URL: http://katalog.we-online.de/kataloge/eisos/index.php?language=en&pf=WE-VD
footprint WE-VD_10MM-DIA
pins: 1, 2

## WE-VD_10MM,820511111
designator D?, comment <b>Characteristics:</b> / <pre>•Low clamping voltage / •After a surge impulse the varistor works immediately / in normal mode so there is no slip current / •Excellent absorption at surge impulses</pre><br> / <b>Applications:</b> / <pre> / •12–48 VDC distribution / •110–400 V power supply / •Leakage of voltage peaks / •Surge protection in accordance with EN 61000-4-5 / </pre>
MANUFACTURER: Würth Elektronik eiSos GmbH; CREATED-BY: Christin Zierenner; COMPANY-URL: http://www.we-online.de; CREATED-DATE: May 2012; DATASHEET-URL: http://katalog.we-online.de/kataloge/eisos/index.php?language=en&pf=WE-VD
footprint WE-VD_10MM-DIA
pins: 1, 2

## WE-VD_10MM,820511311
designator D?, comment <b>Characteristics:</b> / <pre>•Low clamping voltage / •After a surge impulse the varistor works immediately / in normal mode so there is no slip current / •Excellent absorption at surge impulses</pre><br> / <b>Applications:</b> / <pre> / •12–48 VDC distribution / •110–400 V power supply / •Leakage of voltage peaks / •Surge protection in accordance with EN 61000-4-5 / </pre>
MANUFACTURER: Würth Elektronik eiSos GmbH; CREATED-BY: Christin Zierenner; COMPANY-URL: http://www.we-online.de; CREATED-DATE: May 2012; DATASHEET-URL: http://katalog.we-online.de/kataloge/eisos/media/pdf/820511311.pdf
footprint WE-VD_10MM-DIA
pins: 1, 2

## WE-VD_10MM,820511401
designator D?, comment <b>Characteristics:</b> / <pre>•Low clamping voltage / •After a surge impulse the varistor works immediately / in normal mode so there is no slip current / •Excellent absorption at surge impulses</pre><br> / <b>Applications:</b> / <pre> / •12–48 VDC distribution / •110–400 V power supply / •Leakage of voltage peaks / •Surge protection in accordance with EN 61000-4-5 / </pre>
MANUFACTURER: Würth Elektronik eiSos GmbH; CREATED-BY: Christin Zierenner; COMPANY-URL: http://www.we-online.de; CREATED-DATE: May 2012; DATASHEET-URL: http://katalog.we-online.de/kataloge/eisos/index.php?language=en&pf=WE-VD
footprint WE-VD_10MM-DIA
pins: 1, 2

## WE-VD_10MM,820511406
designator D?, comment <b>Characteristics:</b> / <pre>•Low clamping voltage / •After a surge impulse the varistor works immediately / in normal mode so there is no slip current / •Excellent absorption at surge impulses</pre><br> / <b>Applications:</b> / <pre> / •12–48 VDC distribution / •110–400 V power supply / •Leakage of voltage peaks / •Surge protection in accordance with EN 61000-4-5 / </pre>
MANUFACTURER: Würth Elektronik eiSos GmbH; CREATED-BY: Christin Zierenner; COMPANY-URL: http://www.we-online.de; CREATED-DATE: May 2012; DATASHEET-URL: http://katalog.we-online.de/kataloge/eisos/index.php?language=en&pf=WE-VD
footprint WE-VD_10MM-DIA
pins: 1, 2